# EAGLE library part LCD-DMC162C (library #PaJa_displeje)
DISPLAY DMC 162C BACKLIGHT 16X2
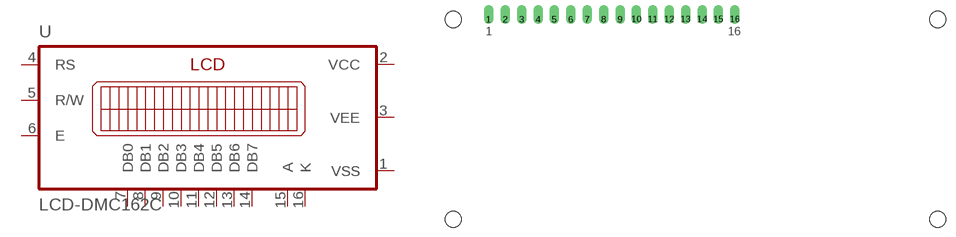
[diagram p5: symbol with the pads of DMC-162C; footprint DMC-162C]

Designator prefix -

## LCD-DMC162C  [DMC-162C]
1  VSS  pwr
2  VCC  pwr
3  VEE  pwr
4  RS  in
5  R/W  in
6  E  in
7  DB0  pas
8  DB1  pas
9  DB2  pas
10  DB3  pas
11  DB4  pas
12  DB5  pas
13  DB6  pas
14  DB7  pas
15  A
16  K

## Footprint DMC-162C (pad centres in mm)
LCD 16 x 2 vývody naho?er úzký
drill 1 offset: 1 8,33.5; 2 10.54,33.5; 3 13.08,33.5; 4 15.62,33.5; 5 18.16,33.5; 6 20.7,33.5; 7 23.24,33.5; 8 25.78,33.5; 9 28.32,33.5; 10 30.86,33.5; 11 33.4,33.5; 12 35.94,33.5; 13 38.48,33.5; 14 41.02,33.5; 15 43.56,33.5; 16 46.1,33.5
hole 2.5 at 2.5,2.5
hole 2.5 at 77.5,2.5
hole 2.5 at 77.5,33.5
hole 2.5 at 2.5,33.5